# EAGLE library part USB232M (library ftdichip)
FTDI DLP-USB232M-G USB-UART Interface Module The DLP-USB232M-G is a low cost integrated module featuring FTDI's FT232BL 2nd generation USB UART. Ideal for rapid prototyping and development of FT232BL designs, an attractive quantity discount structure also makes this module suitable for incorporation into low/medium volume finished product designs. Despite its low cost, the DLP-USB232M-G not only offers the advanced features of FTDI's 2nd generation device but has a quality 4-layer PCB design with solid power and ground planes and an integral 93C46 EEPROM on-board for easy OEM customisation. The DLP-USB232M-G plugs into a standard 24-pin 0.6in wide DIP socket. To download the DLP-USB232M-G data sheet, goto http://ftdichip.com/Documents/DataSheets/DLP/dlp-usb232m15.pdf.
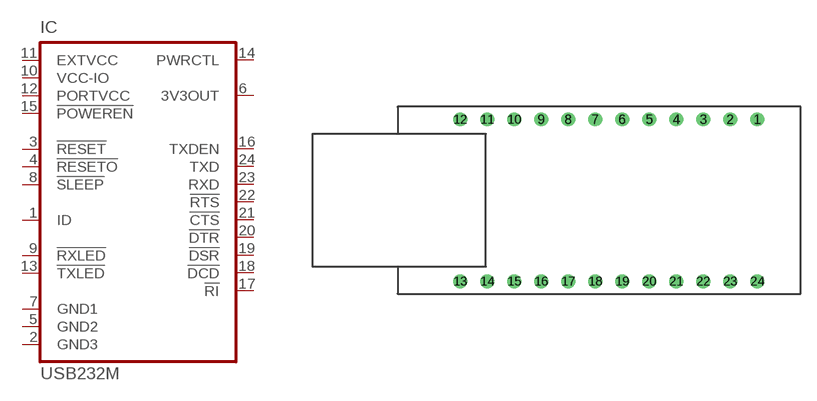
[diagram p6: symbol with the pads of DIP-24-USB; footprint DIP-24-USB]

Designator prefix IC

## USB232MG  [DIP-24-USB]
1  ID  in
2  GND3  in
3  !RESET  in
4  !RESETO  in
5  GND2  in
6  3V3OUT  in
7  GND1  in
8  !SLEEP  in
9  !RXLED  in
10  VCC-IO  in
11  EXTVCC  in
12  PORTVCC  in
13  !TXLED  in
14  PWRCTL  in
15  !POWEREN  in
16  TXDEN  in
17  !RI  in
18  !DCD  in
19  !DSR  in
20  !DTR  in
21  !CTS  in
22  !RTS  in
23  RXD  in
24  TXD  in

## Footprint DIP-24-USB (pad centres in mm)
Package DIP-24 with USB-B Female connector
drill 0.8 pad 1.27 round: 1 15.24,7.62; 2 12.7,7.62; 3 10.16,7.62; 4 7.62,7.62; 5 5.08,7.62; 6 2.54,7.62; 7 0,7.62; 8 -2.54,7.62; 9 -5.08,7.62; 10 -7.62,7.62; 11 -10.16,7.62; 12 -12.7,7.62; 13 -12.7,-7.62; 14 -10.16,-7.62; 15 -7.62,-7.62; 16 -5.08,-7.62; 17 -2.54,-7.62; 18 0,-7.62; 19 2.54,-7.62; 20 5.08,-7.62; 21 7.62,-7.62; 22 10.16,-7.62; 23 12.7,-7.62; 24 15.24,-7.62